# Altium schematic symbol library FTDI.SchLib: 2 symbols
Pins are listed as number, name and electrical type; pins without a type are passive.

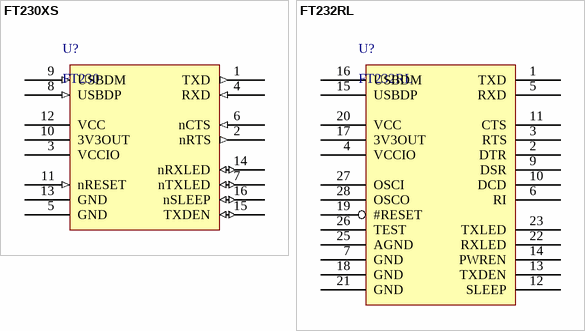
[diagram p0: symbols FT230XS to FT232RL]

## FT230XS
designator U?, comment FT230
pins: 1 TXD (out), 2 nRTS (out), 3 VCCIO (power), 4 RXD (in), 5 GND (power), 6 nCTS (in), 7 nTXLED (io), 8 USBDP (in), 9 USBDM (in), 10 3V3OUT (power), 11 nRESET (in), 12 VCC (power), 13 GND (power), 14 nRXLED (io), 15 TXDEN (io), 16 nSLEEP (io)

## FT232RL
designator U?
pins: 1 TXD, 2 DTR, 3 RTS, 4 VCCIO, 5 RXD, 6 RI, 7 GND, 8 NC hidden to GND, 9 DSR, 10 DCD, 11 CTS, 12 SLEEP, 13 TXDEN, 14 PWREN, 15 USBDP, 16 USBDM, 17 3V3OUT, 18 GND, 19 #RESET, 20 VCC, 21 GND, 22 RXLED, 23 TXLED, 24 NC hidden to GND, 25 AGND, 26 TEST, 27 OSCI, 28 OSCO